# EAGLE library part BQ24168RGET (library OMAT_IC)
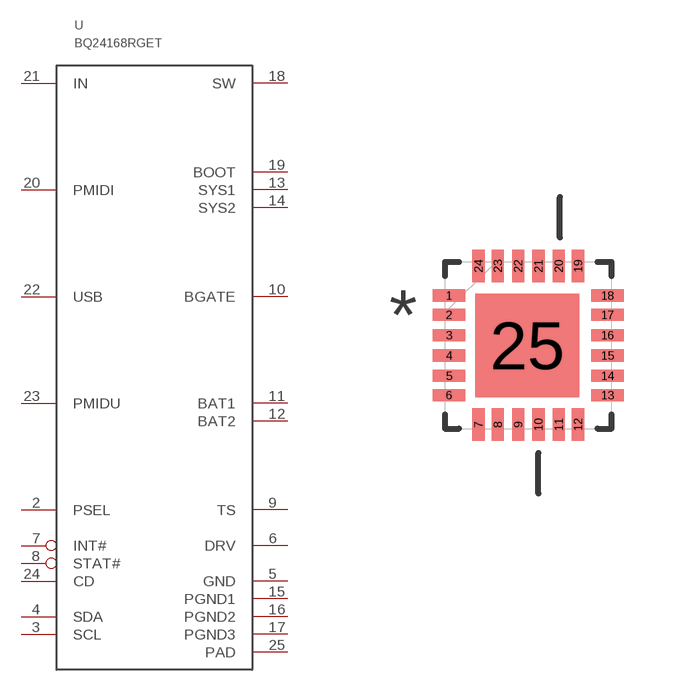
[diagram p7: symbol with the pads of QFN50P400X400X100-25N; footprint QFN50P400X400X100-25N]

Designator prefix -

## BQ24168RGET  [QFN50P400X400X100-25N]
2  PSEL
3  SCL
4  SDA
5  GND
6  DRV
7  INT#
8  STAT#
9  TS
10  BGATE
11  BAT1
12  BAT2
13  SYS1
14  SYS2
15  PGND1
16  PGND2
17  PGND3
18  SW
19  BOOT
20  PMIDI
21  IN
22  USB
23  PMIDU
24  CD
25  PAD

## Footprint QFN50P400X400X100-25N (pad centres in mm)
smd 0.813 x 0.305: 1 -1.981,1.245; 2 -1.981,0.762; 3 -1.981,0.254; 4 -1.981,-0.254; 5 -1.981,-0.762; 6 -1.981,-1.245; 13 1.981,-1.245; 14 1.981,-0.762; 15 1.981,-0.254; 16 1.981,0.254; 17 1.981,0.762; 18 1.981,1.245
smd 0.305 x 0.813: 7 -1.245,-1.981; 8 -0.762,-1.981; 9 -0.254,-1.981; 10 0.254,-1.981; 11 0.762,-1.981; 12 1.245,-1.981; 19 1.245,1.981; 20 0.762,1.981; 21 0.254,1.981; 22 -0.254,1.981; 23 -0.762,1.981; 24 -1.245,1.981
smd 2.591 x 2.591: 25 -0.025,0